# Altium schematic symbol library led-7-segment.SCHLIB: 3 symbols
Pins are listed as number, name and electrical type; pins without a type are passive.

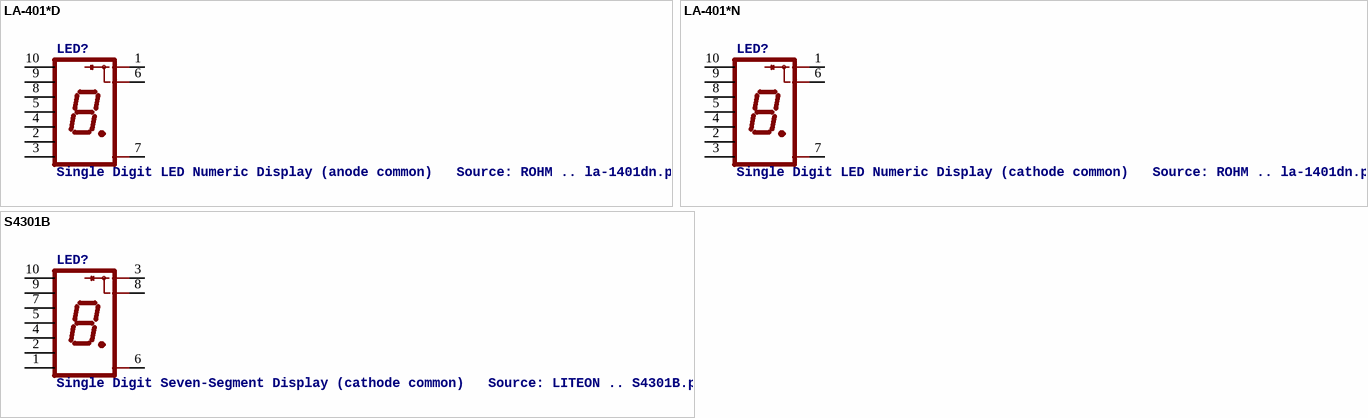
[diagram p0: symbols LA-401*D to S4301B]

## LA-401*D
designator LED?, comment Single Digit LED Numeric Display (anode common)   Source: ROHM .. la-1401dn.pdf
OC_FARNELL: unknown; OC_NEWARK: unknown
footprint LA-401
pins: 1 A@1, 2 F, 3 G, 4 E, 5 D, 6 A@2, 7 DP, 8 C, 9 B, 10 A

## LA-401*N
designator LED?, comment Single Digit LED Numeric Display (cathode common)   Source: ROHM .. la-1401dn.pdf
OC_FARNELL: unknown; OC_NEWARK: unknown
footprint LA-401
pins: 1 C@1, 2 F, 3 G, 4 E, 5 D, 6 C@2, 7 DP, 8 C, 9 B, 10 A

## S4301B
designator LED?, comment Single Digit Seven-Segment Display (cathode common)   Source: LITEON .. S4301B.pdf
OC_FARNELL: unknown; OC_NEWARK: unknown
footprint S4301B
pins: 1 G, 2 F, 3 C@1, 4 E, 5 D, 6 DP, 7 C, 8 C@2, 9 B, 10 A